# Altium schematic symbol library LM358P.SchLib: 1 symbol
Pins are listed as number, name and electrical type; pins without a type are passive.

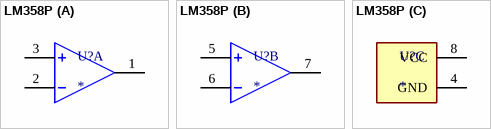
[diagram p0: symbol LM358P]

## LM358P
designator U?
<a href="https://pricing.snapeda.com/parts/LM358P/Texas%20Instruments/view-part?ref=eda">Check prices</a>; MP: LM358P; Package: None; Availability: Unavailable; Value: *; Price: None
footprint DIP794W45P254L959H508Q8
part A pins: 1 OUT1, 2 -IN1, 3 +IN1
part B pins: 5 +IN2, 6 -IN2, 7 OUT2
part C pins: 4 GND (power), 8 VCC (power)